# EAGLE library part FE20-2 (library BoneCapeParts)
FEMALE HEADER
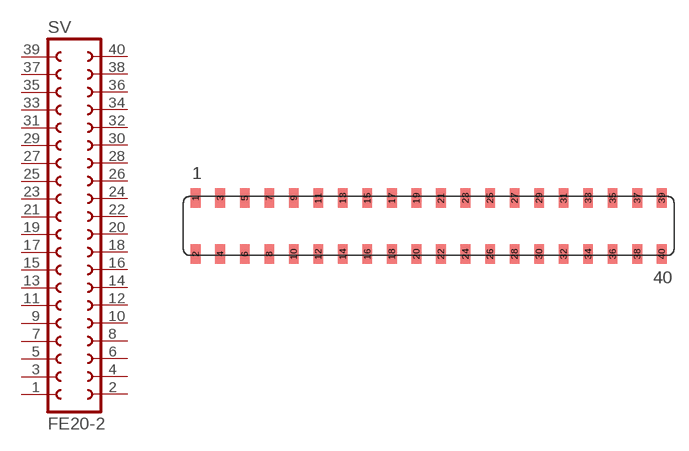
[diagram p9: symbol with the pads of FE20-2; footprint FE20-2]

Designator prefix SV

## FE20-2 (OC_FARNELL: unknown; OC_NEWARK: unknown)  [FE20-2]
1  1  pas
2  2  pas
3  3  pas
4  4  pas
5  5  pas
6  6  pas
7  7  pas
8  8  pas
9  9  pas
10  10  pas
11  11  pas
12  12  pas
13  13  pas
14  14  pas
15  15  pas
16  16  pas
17  17  pas
18  18  pas
19  19  pas
20  20  pas
21  21  pas
22  22  pas
23  23  pas
24  24  pas
25  25  pas
26  26  pas
27  27  pas
28  28  pas
29  29  pas
30  30  pas
31  31  pas
32  32  pas
33  33  pas
34  34  pas
35  35  pas
36  36  pas
37  37  pas
38  38  pas
39  39  pas
40  40  pas

## Footprint FE20-2 (pad centres in mm)
FEMALE HEADER
smd 1 x 2: 1 -24.13,2.9; 2 -24.13,-2.9; 3 -21.59,2.9; 4 -21.59,-2.9; 5 -19.05,2.9; 6 -19.05,-2.9; 7 -16.51,2.9; 8 -16.51,-2.9; 9 -13.97,2.9; 10 -13.97,-2.9; 11 -11.43,2.9; 12 -11.43,-2.9; 13 -8.89,2.9; 14 -8.89,-2.9; 15 -6.35,2.9; 16 -6.35,-2.9; 17 -3.81,2.9; 18 -3.81,-2.9; 19 -1.27,2.9; 20 -1.27,-2.9; 21 1.27,2.9; 22 1.27,-2.9; 23 3.81,2.9; 24 3.81,-2.9; 25 6.35,2.9; 26 6.35,-2.9; 27 8.89,2.9; 28 8.89,-2.9; 29 11.43,2.9; 30 11.43,-2.9; 31 13.97,2.9; 32 13.97,-2.9; 33 16.51,2.9; 34 16.51,-2.9; 35 19.05,2.9; 36 19.05,-2.9; 37 21.59,2.9; 38 21.59,-2.9; 39 24.13,2.9; 40 24.13,-2.9